# Altium footprint library Integrated Circuits.PcbLib: 10 footprints
Each footprint in its own frame and in the unit in brackets; x right, y up, seen from the top. Pads: shape width x height; smd on the part's side, far side on the other; paste and mask are expansions set on the pad; w line width, h text height; cw(c..) or ccw(c..) is an arc to the next point about the centre after c.
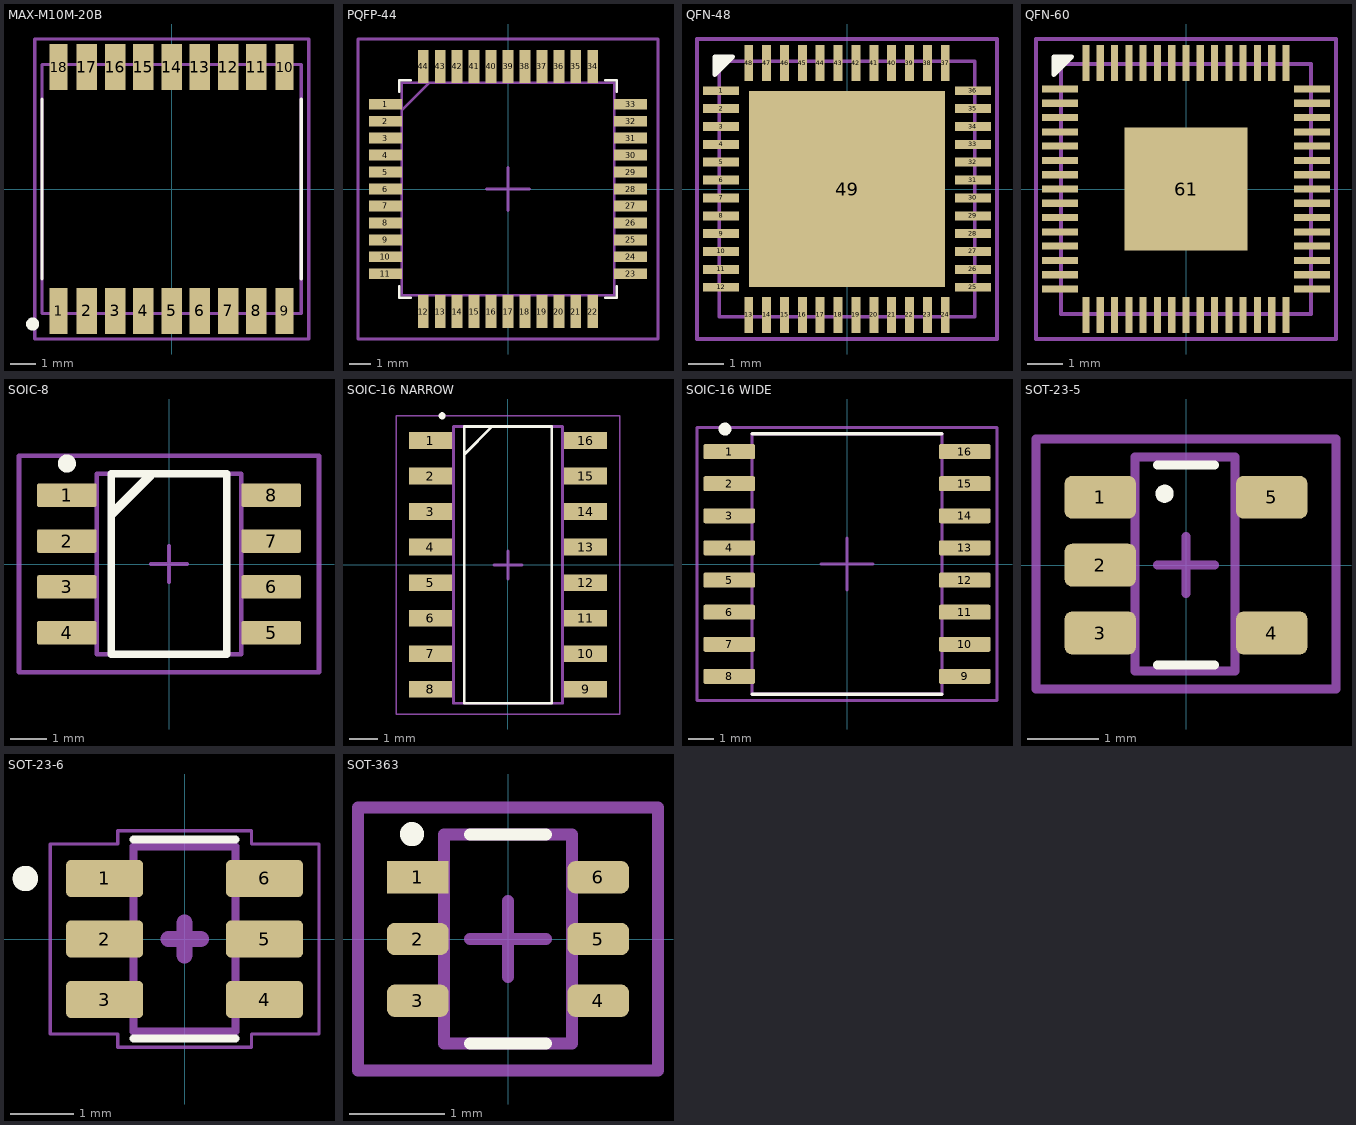
[diagram p0: the footprints below, top view; thin cyan lines are the x and y axes]

## MAX-M10M-20B [mm]
pads (18):
  rect 0.7x1.8 smd: 1(-4.4,-4.75) 9(4.4,-4.75) 10(4.4,4.75) 18(-4.4,4.75)
  rect 0.8x1.8 smd: 2(-3.3,-4.75) 3(-2.2,-4.75) 4(-1.1,-4.75) 5(0,-4.75) 6(1.1,-4.75) 7(2.2,-4.75) 8(3.3,-4.75) 11(3.3,4.75) 12(2.2,4.75) 13(1.1,4.75) 14(0,4.75) 15(-1.1,4.75) 16(-2.2,4.75) 17(-3.3,4.75)
Top Overlay:
  lines w0.127: -5.05,-3.5 -5.05,3.5 ; 5.05,-3.5 5.05,3.5
  lines w0.254: -5.416,-5.388 ccw(c-5.416,-5.261) -5.416,-5.134 ccw(c-5.416,-5.261) -5.416,-5.388
Top Component Outline:
  lines w0.127: -5.05,-4.85 5.05,-4.85 5.05,4.85 -5.05,4.85 -5.05,-4.85
Top Courtyard:
  lines w0.127: -5.334,-5.842 5.334,-5.842 5.334,5.842 -5.334,5.842 -5.334,-5.842
3D body "MAX-M10M-20B.stp": height 2.8, standoff 0, extent -5.05,-4.85 5.05,4.85

## PQFP-44 [mm] "44-lead PQFP"
pads (44):
  rect 1.559x0.501 smd paste+0 mask+0: 1(-5.779,4) 2(-5.779,3.2) 3(-5.779,2.4) 4(-5.779,1.6) 5(-5.779,0.8) 6(-5.779,0) 7(-5.779,-0.8) 8(-5.779,-1.6) 9(-5.779,-2.4) 10(-5.779,-3.2) 11(-5.779,-4) 23(5.779,-4) 24(5.779,-3.2) 25(5.779,-2.4) 26(5.779,-1.6) 27(5.779,-0.8) 28(5.779,0) 29(5.779,0.8) 30(5.779,1.6) 31(5.779,2.4) 32(5.779,3.2) 33(5.779,4)
  rect 0.501x1.559 smd paste+0 mask+0: 12(-4,-5.779) 13(-3.2,-5.779) 14(-2.4,-5.779) 15(-1.6,-5.779) 16(-0.8,-5.779) 17(0,-5.779) 18(0.8,-5.779) 19(1.6,-5.779) 20(2.4,-5.779) 21(3.2,-5.779) 22(4,-5.779) 34(4,5.779) 35(3.2,5.779) 36(2.4,5.779) 37(1.6,5.779) 38(0.8,5.779) 39(0,5.779) 40(-0.8,5.779) 41(-1.6,5.779) 42(-2.4,5.779) 43(-3.2,5.779) 44(-4,5.779)
Top Overlay:
  lines w0.127: -5.127,-4.583 -5.127,-5.127 -4.583,-5.127 ; -5.127,4.583 -5.127,5.127 -4.583,5.127 ; 4.583,-5.127 5.127,-5.127 5.127,-4.583 ; 4.583,5.127 5.127,5.127 5.127,4.583
Top Component Center:
  lines w0.127: -1.016,0 0,0 ; 0,-1.016 0,0 ; 0,1.016 0,0 ; 1.016,0 0,0
Top Component Outline:
  lines w0.127: -5,3.73 -3.73,5 ; -5,-5 5,-5 5,5 -5,5 -5,-5
Top Courtyard:
  lines w0.127: -7.067,-7.067 7.067,-7.067 7.067,7.067 -7.067,7.067 -7.067,-7.067
3D body "QFP44_10x10MC_MCH.step": height 1.2, standoff 0, extent -6,-6 6,6

## QFN-48 [mm] "7x7mm 48-Pin Quad Flat No Lead Package 0.5mm pitch"
pads (49):
  rect 1x0.25 smd: 1(-3.525,2.75) 2(-3.525,2.25) 3(-3.525,1.75) 4(-3.525,1.25) 5(-3.525,0.75) 6(-3.525,0.25) 7(-3.525,-0.25) 8(-3.525,-0.75) 9(-3.525,-1.25) 10(-3.525,-1.75) 11(-3.525,-2.25) 12(-3.525,-2.75) 25(3.525,-2.75) 26(3.525,-2.25) 27(3.525,-1.75) 28(3.525,-1.25) 29(3.525,-0.75) 30(3.525,-0.25) 31(3.525,0.25) 32(3.525,0.75) 33(3.525,1.25) 34(3.525,1.75) 35(3.525,2.25) 36(3.525,2.75)
  rect 0.25x1 smd: 13(-2.75,-3.525) 14(-2.25,-3.525) 15(-1.75,-3.525) 16(-1.25,-3.525) 17(-0.75,-3.525) 18(-0.25,-3.525) 19(0.25,-3.525) 20(0.75,-3.525) 21(1.25,-3.525) 22(1.75,-3.525) 23(2.25,-3.525) 24(2.75,-3.525) 37(2.75,3.525) 38(2.25,3.525) 39(1.75,3.525) 40(1.25,3.525) 41(0.75,3.525) 42(0.25,3.525) 43(-0.25,3.525) 44(-0.75,3.525) 45(-1.25,3.525) 46(-1.75,3.525) 47(-2.25,3.525) 48(-2.75,3.525)
  rect 5.5x5.5 smd: 49(0,0)
Top Overlay:
  circle w0.2: c-3.475,3.575 r0.05
  circle w0.2: c-3.575,3.475 r0.05
  circle w0.2: c-3.3,3.655 r0.001
  circle w0.2: c-3.655,3.3 r0.001
  lines w0.127: -3.45,3.45 -3.7,3.7 ; -3.7,3.7 -3.2,3.7 -3.7,3.2 -3.7,3.7
Top 3D Body:
  lines w0.127: -0.889,0 0,0 ; 0,-0.889 0,0 ; 0,0.889 0,0 ; 0.889,0 0,0
Top Component Center:
  lines w0.127: -0.889,0 0,0 ; 0,-0.889 0,0 ; 0,0.889 0,0 ; 0.889,0 0,0
Top Component Outline:
  lines w0.1: -3.575,-3.575 -3.575,3.575 3.575,3.575 3.575,-3.575 -3.575,-3.575
Top Courtyard:
  lines w0.1: -4.2,-4.2 -4.2,4.2 4.2,4.2 4.2,-4.2 -4.2,-4.2
3D body "QFN127P600-8N.step": height 0.75, standoff 0, extent -3.575,-3.575 3.575,3.575

## QFN-60 [mm] "7x7mm 60 pin Quad Flat No Lead Package 0.4mm Pitch"
pads (61):
  rect 1x0.2 smd: 1(-3.525,2.8) 2(-3.525,2.4) 3(-3.525,2) 4(-3.525,1.6) 5(-3.525,1.2) 6(-3.525,0.8) 7(-3.525,0.4) 8(-3.525,0) 9(-3.525,-0.4) 10(-3.525,-0.8) 11(-3.525,-1.2) 12(-3.525,-1.6) 13(-3.525,-2) 14(-3.525,-2.4) 15(-3.525,-2.8) 31(3.525,-2.8) 32(3.525,-2.4) 33(3.525,-2) 34(3.525,-1.6) 35(3.525,-1.2) 36(3.525,-0.8) 37(3.525,-0.4) 38(3.525,0) 39(3.525,0.4) 40(3.525,0.8) 41(3.525,1.2) 42(3.525,1.6) 43(3.525,2) 44(3.525,2.4) 45(3.525,2.8)
  rect 0.2x1 smd: 16(-2.8,-3.525) 17(-2.4,-3.525) 18(-2,-3.525) 19(-1.6,-3.525) 20(-1.2,-3.525) 21(-0.8,-3.525) 22(-0.4,-3.525) 23(0,-3.525) 24(0.4,-3.525) 25(0.8,-3.525) 26(1.2,-3.525) 27(1.6,-3.525) 28(2,-3.525) 29(2.4,-3.525) 30(2.8,-3.525) 46(2.8,3.525) 47(2.4,3.525) 48(2,3.525) 49(1.6,3.525) 50(1.2,3.525) 51(0.8,3.525) 52(0.4,3.525) 53(0,3.525) 54(-0.4,3.525) 55(-0.8,3.525) 56(-1.2,3.525) 57(-1.6,3.525) 58(-2,3.525) 59(-2.4,3.525) 60(-2.8,3.525)
  rect 3.45x3.45 smd: 61(0,0)
Top Overlay:
  circle w0.2: c-3.655,3.3 r0.001
  circle w0.2: c-3.3,3.655 r0.001
  circle w0.2: c-3.575,3.475 r0.05
  circle w0.2: c-3.475,3.575 r0.05
  lines w0.127: -3.45,3.45 -3.7,3.7 ; -3.7,3.7 -3.7,3.2 -3.2,3.7 -3.7,3.7
Top Component Center:
  lines w0.127: -1,0 0,0 ; 0,-1 0,0 ; 0,1 0,0 ; 1,0 0,0
Top Component Outline:
  lines w0.1: -3.5,-3.5 -3.5,3.5 3.5,3.5 3.5,-3.5 -3.5,-3.5
Top Courtyard:
  lines w0.1: -4.2,-4.2 -4.2,4.2 4.2,4.2 4.2,-4.2 -4.2,-4.2
3D body "RP2354A.stp": height 0.9, standoff 0, extent -3.55,-3.55 3.55,3.55

## SOIC-8 [mm]
pads (8):
  rrect15% 1.65x0.65 smd: 1(-2.825,1.905) 2(-2.825,0.635) 3(-2.825,-0.635) 4(-2.825,-1.905) 5(2.825,-1.905) 6(2.825,-0.635) 7(2.825,0.635) 8(2.825,1.905)
Top Overlay:
  circle w0.25: c-2.825,2.78 r0.125
  lines w0.2: -1.6,-2.5 -1.6,2.5 1.6,2.5 1.6,-2.5 -1.6,-2.5
  lines w0.254: -1.57,1.397 -0.508,2.464
Top Component Center:
  lines w0.1: -0.5,0 0.5,0 ; 0,-0.5 0,0.5
Top Component Outline:
  lines w0.127: -2,-2.5 2,-2.5 2,2.5 -2,2.5 -2,-2.5
Top Courtyard:
  lines w0.127: -4.15,-3 -4.15,3 4.15,3 4.15,-3 -4.15,-3
3D body "SOIC-8akaD0008AakaM08A.stp": height 1.63, standoff 0, extent -3,-2.45 3,2.45

## SOIC-16 NARROW [mm] "SOIC-16 Narrow Footprint"
pads (16):
  rect 1.55x0.6 smd: 1(-2.775,4.445) 2(-2.775,3.175) 3(-2.775,1.905) 4(-2.775,0.635) 5(-2.775,-0.635) 6(-2.775,-1.905) 7(-2.775,-3.175) 8(-2.775,-4.445) 9(2.775,-4.445) 10(2.775,-3.175) 11(2.775,-1.905) 12(2.775,-0.635) 13(2.775,0.635) 14(2.775,1.905) 15(2.775,3.175) 16(2.775,4.445)
Top Overlay:
  circle w0.127: c-2.354,5.334 r0.064
  lines w0.1: -1.562,3.958 -0.574,4.947 ; -1.562,-4.95 1.562,-4.95 1.562,4.95 -1.562,4.95 -1.562,-4.95
Top Component Center:
  lines w0.1: -0.5,0 0.5,0 ; 0,-0.5 0,0.5
Top Component Outline:
  lines w0.1: -1.95,-4.95 1.95,-4.95 1.95,4.95 -1.95,4.95 -1.95,-4.95
Top Courtyard:
  lines w0.05: -4,-5.334 4,-5.334 4,5.334 -4,5.334 -4,-5.334
3D body "SN74F1056DR.stp": height 1.75, standoff 0, extent -3.013,-4.95 3.013,4.95

## SOIC-16 WIDE [mm] "SOIC-16 Wide (Default) Variation"
pads (16):
  rrect25% 2.05x0.59 smd paste+0 mask+0.102: 1(-4.655,4.445) 2(-4.655,3.175) 3(-4.655,1.905) 4(-4.655,0.635) 5(-4.655,-0.635) 6(-4.655,-1.905) 7(-4.655,-3.175) 8(-4.655,-4.445) 9(4.655,-4.445) 10(4.655,-3.175) 11(4.655,-1.905) 12(4.655,-0.635) 13(4.655,0.635) 14(4.655,1.905) 15(4.655,3.175) 16(4.655,4.445)
Top Overlay:
  circle w0.254: c-4.826,5.334 r0.127
  lines w0.127: -3.75,-5.15 3.75,-5.15 ; -3.75,5.15 3.75,5.15
Top Component Center:
  lines w0.127: -1.016,0 0,0 ; 0,-1.016 0,0 ; 0,1.016 0,0 ; 1.016,0 0,0
Top Component Outline:
  lines w0.127: -3.75,-5.15 3.75,-5.15 3.75,5.15 -3.75,5.15 -3.75,-5.15
Top Courtyard:
  lines w0.127: -5.93,-5.4 5.93,-5.4 5.93,5.4 -5.93,5.4 -5.93,-5.4
3D body "step_temp.STEP": height 2.65, standoff 0, extent -5.162,-5.15 5.162,5.15

## SOT-23-5 [mm] "generic sot-23-5 footprint"
pads (5):
  rrect35% 1x0.6 smd: 1(-1.2,0.95) 2(-1.2,0) 3(-1.2,-0.95) 4(1.2,-0.95) 5(1.2,0.95)
Top Overlay:
  lines w0.127: -0.4,-1.4 0.4,-1.4 ; -0.4,1.4 0.4,1.4 ; -0.236,1 cw(c-0.3,1) -0.237,1.004
Top Component Center:
  lines w0.127: -0.4,0 0,0 ; 0,-0.4 0,0 ; 0,0.4 0,0 ; 0.4,0 0,0
Top Component Outline:
  lines w0.127: -0.716,-1.484 -0.716,1.516 0.684,1.516 0.684,-1.484 -0.716,-1.484
Top Courtyard:
  lines w0.127: -2.1,-1.734 2.1,-1.734 2.1,1.766 -2.1,1.766 -2.1,-1.734
3D body "TSX921IYLT.step": height 1.45, standoff 0, extent -1.4,-1.45 1.4,1.45

## SOT-23-6 [mm] "generic sot-23-6 footprint"
pads (6):
  rrect25% 1.21x0.58 smd: 1(-1.255,0.95) 2(-1.255,0) 3(-1.255,-0.95) 4(1.255,-0.95) 5(1.255,0) 6(1.255,0.95)
Top Overlay:
  circle w0.2: c-2.5,0.95 r0.1
  lines w0.127: -0.8,-1.56 0.8,-1.56 ; -0.8,1.56 0.8,1.56
Top Component Center:
  lines w0.254: -0.254,0 0.254,0 ; 0,-0.254 0,0.254
Top Component Outline:
  lines w0.127: -0.8,-1.45 0.8,-1.45 0.8,1.45 -0.8,1.45 -0.8,-1.45
Top Courtyard:
  lines w0.05: -2.11,-1.49 -1.05,-1.49 -1.05,-1.7 1.05,-1.7 1.05,-1.49 2.11,-1.49 2.11,1.49 1.05,1.49 1.05,1.7 -1.05,1.7 -1.05,1.49 -2.11,1.49 -2.11,-1.49
3D body "SOT-23-6_CHY_MCH.step": height 1.45, standoff 0, extent -1.397,-1.448 1.397,1.448

## SOT-363 [mm] "6 pin compact footprint"
pads (6):
  rect 0.65x0.34 smd mask+0.04: 1(-0.95,0.65)
  rrect50% 0.65x0.34 smd mask+0.04: 2(-0.95,0) 3(-0.95,-0.65) 4(0.95,-0.65) 5(0.95,0) 6(0.95,0.65)
Top Overlay:
  lines w0.127: -0.946,1.103 cw(c-1.01,1.103) -0.947,1.107 ; -0.4,-1.1 0.4,-1.1 ; -0.4,1.1 0.4,1.1
Top Component Center:
  lines w0.127: -0.4,0 0,0 ; 0,-0.4 0,0 ; 0,0.4 0,0 ; 0.4,0 0,0
Top Component Outline:
  lines w0.127: -0.675,-1.1 0.675,-1.1 0.675,1.1 -0.675,1.1 -0.675,-1.1
Top Courtyard:
  lines w0.127: -1.578,-1.384 1.578,-1.384 1.578,1.384 -1.578,1.384 -1.578,-1.384
3D body "SOT363.stp": height 1.1, standoff 0.01, extent -1.05,-1.075 1.05,1.075